# Altium schematic symbol library TESD5V0V4UCU6_RFG.SchLib: 1 symbol
Pins are listed as number, name and electrical type; pins without a type are passive.

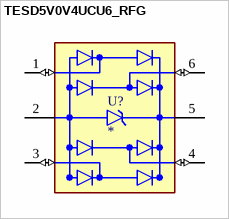
[diagram p0: symbol TESD5V0V4UCU6_RFG]

## TESD5V0V4UCU6_RFG
designator U?
SOT-363, 5V, 150W, 3pF, ESD Protection; MF: Taiwan Semiconductor; MP: TESD5V0V4UCU6 RFG; SnapEDA_Link: https://www.snapeda.com/parts/TESD5V0V4UCU6%20RFG/Taiwan+Semiconductor/view-part/?ref=snap; Package: SOT-363 Taiwan Semiconductor; Value: *; Check_prices: https://www.snapeda.com/parts/TESD5V0V4UCU6%20RFG/Taiwan+Semiconductor/view-part/?ref=eda
footprint SOT65P210X100-6N
pins: 1 IO1 (io), 2 GND (power), 3 IO2 (io), 4 IO3 (io), 5 VDD (power), 6 IO4 (io)